# Altium schematic symbol library RP2040-ZERO.SchLib: 1 symbol
Pins are listed as number, name and electrical type; pins without a type are passive.

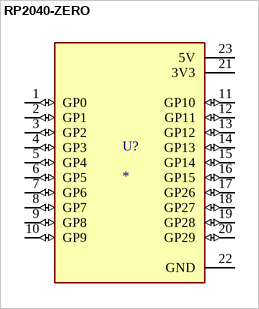
[diagram p0: symbol RP2040-ZERO]

## RP2040-ZERO
designator U?
Low-Cost, High-Performance Pico-Like MCU Board Based On Raspberry Pi Microcontroller RP2040; MF: Waveshare Electronics; MP: RP2040-ZERO; SnapEDA_Link: https://www.snapeda.com/parts/RP2040-ZERO/Waveshare+Electronics/view-part/?ref=snap; Package: Package; Value: *; Check_prices: https://www.snapeda.com/parts/RP2040-ZERO/Waveshare+Electronics/view-part/?ref=eda
footprint MODULE_RP2040-ZERO
pins: 1 GP0 (io), 2 GP1 (io), 3 GP2 (io), 4 GP3 (io), 5 GP4 (io), 6 GP5 (io), 7 GP6 (io), 8 GP7 (io), 9 GP8 (io), 10 GP9 (io), 11 GP10 (io), 12 GP11 (io), 13 GP12 (io), 14 GP13 (io), 15 GP14 (io), 16 GP15 (io), 17 GP26 (io), 18 GP27 (io), 19 GP28 (io), 20 GP29 (io), 21 3V3 (power), 22 GND (power), 23 5V (power)